# EAGLE library part MAX4731EUA+ (library analog-switches)
50Ω, Dual SPST Analog Switches Datasheet <https://pl.mouser.com/datasheet/2/256/MAX4731-MAX4733-1292237.pdf>
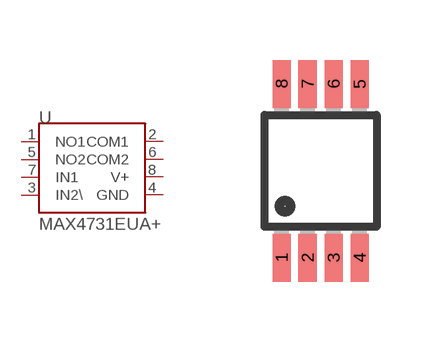
[diagram p0: symbol with the pads of UMAX8; footprint UMAX8]

Designator prefix U

## MAX4731EUA+  [UMAX8]
1  NO1
2  COM1
3  IN2\
4  GND
5  NO2
6  COM2
7  IN1
8  V+

## Footprint UMAX8 (pad centres in mm)
micro MAX Package
smd 0.45 x 1.2: 1 -0.975,-2.175; 2 -0.325,-2.175; 3 0.325,-2.175; 4 0.975,-2.175; 5 0.975,2.175; 6 0.325,2.175; 7 -0.325,2.175; 8 -0.975,2.175